# EAGLE library part EZG-?-309 (library con-lemo)
LEMO Connector Source: http://www.lemo.com/pdfs/catalog/ROW/German/unipole_multipole.pdf
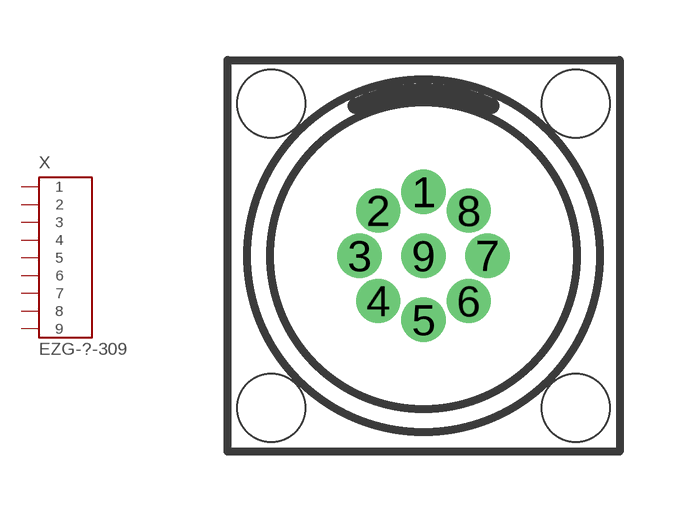
[diagram p6: symbol with the pads of EZG-0B-0K-309; footprint EZG-0B-0K-309]

Designator prefix X

## EZG-0B-309 (OC_FARNELL: unknown; OC_NEWARK: unknown)  [EZG-0B-0K-309]
1  1  pas
2  2  pas
3  3  pas
4  4  pas
5  5  pas
6  6  pas
7  7  pas
8  8  pas
9  9  pas

## EZG-0K-309 (OC_FARNELL: unknown; OC_NEWARK: unknown)  [EZG-0B-0K-309]
Pads as for EZG-0B-0K-309

## Footprint EZG-0B-0K-309 (pad centres in mm)
LEMO Connector Source: http://www.lemo.com/pdfs/catalog/ROW/German/unipole_multipole.pdf
drill 0.6 pad 1: 1 0,1.6; 2 -1.131,1.131; 3 -1.6,0; 4 -1.131,-1.131; 5 0,-1.6; 6 1.131,-1.131; 7 1.6,0; 8 1.131,1.131; 9 0,0
hole 1.7 at -3.81,3.81
hole 1.7 at 3.81,3.81
hole 1.7 at 3.81,-3.81
hole 1.7 at -3.81,-3.81